# Altium footprint library 3025.PcbLib: 1 footprints
Each footprint in its own frame and in the unit in brackets; x right, y up, seen from the top. Pads: shape width x height; smd on the part's side, far side on the other; paste and mask are expansions set on the pad; w line width, h text height; cw(c..) or ccw(c..) is an arc to the next point about the centre after c.
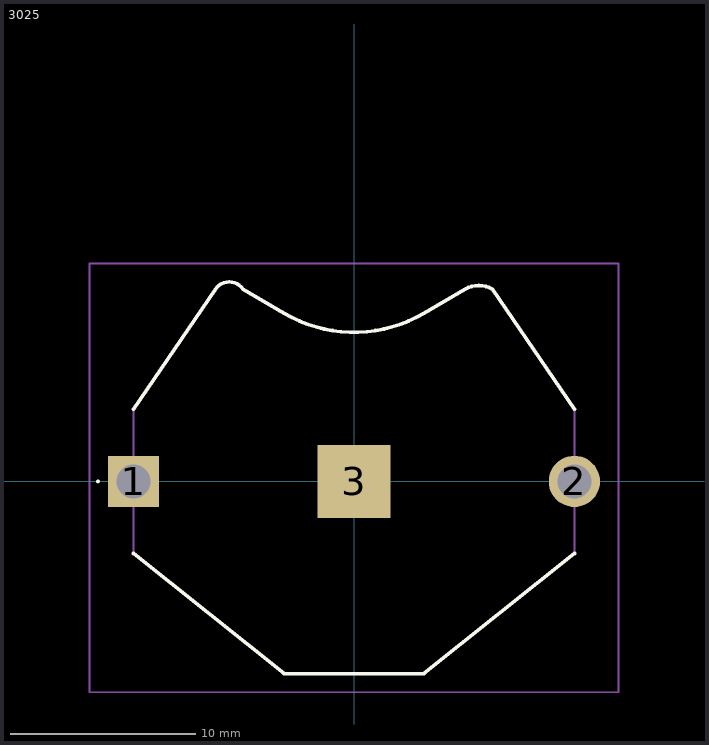
[diagram p0: the footprint, top view; thin cyan lines are the x and y axes]

## 3025 [mm]
pads (3):
  rect 2.775x2.775 hole 1.85: 1(-11.925,0)
  round 2.775 hole 1.85: 2(11.925,0)
  rect 3.96x3.96 smd: 3(0,0)
Top Overlay:
  lines w0.1: -13.9,0 cw(c-13.85,0) -13.8,0 ; -13.9,0 -13.9,0 ; -13.9,0 ccw(c-13.85,0) -13.8,0 ; -13.8,0 -13.8,0
  lines w0.2: -11.925,-3.9 -3.785,-10.4 3.785,-10.4 11.925,-3.9 ; -11.925,3.9 -7.5,10.4 ; -7.5,10.399 cw(c-6.75,9.89) -6.001,10.401 ; -6,10.4 -3.785,9.1 ; 7.5,10.4 ccw(c6.75,9.122) 6,10.4 ; 7.5,10.4 11.925,3.9 ; -7.5,10.4 -7.5,10.4 ; -3.785,9.1 -3.785,9.1 ; -3.784,9.099 ccw(c0,15.549) 3.784,9.099 6,10.4 ; 6,10.4 6,10.4
Mechanical 15:
  lines w0.1: -7.5,10.399 cw(c-6.75,9.89) -6.001,10.401 ; -6,10.4 -3.785,9.1 ; 7.5,10.4 ccw(c6.75,9.122) 6,10.4 ; 7.5,10.4 11.925,3.9 11.925,-3.9 3.785,-10.4 -3.785,-10.4 -11.925,-3.9 -11.925,3.9 -7.5,10.4 ; -7.5,10.4 -7.5,10.4 ; -3.785,9.1 -3.785,9.1 ; -3.784,9.099 ccw(c0,15.549) 3.784,9.099 6,10.4 ; 6,10.4 6,10.4
Mechanical 20:
  lines w0.1: -14.313,-11.4 14.313,-11.4 14.313,11.797 -14.313,11.797 -14.313,-11.4